# EAGLE library part PCA82C250 (library SquantorNxp)
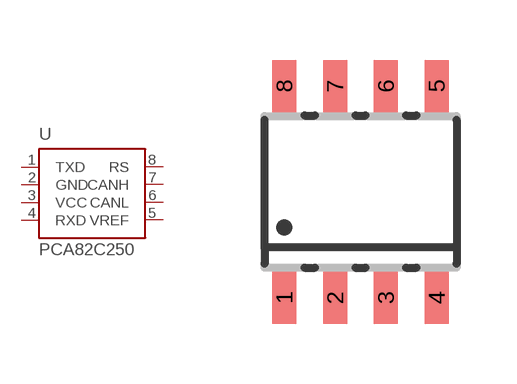
[diagram p10: symbol with the pads of SOT96-1; footprint SOT96-1]

Designator prefix -

## PCA82C250  [SOT96-1]
1  TXD
2  GND
3  VCC
4  RXD
5  VREF
6  CANL
7  CANH
8  RS

## Footprint SOT96-1 (pad centres in mm)
smd 0.6 x 1.3: 1 -1.905,-2.65; 2 -0.635,-2.65; 3 0.635,-2.65; 4 1.905,-2.65; 5 1.905,2.65; 6 0.635,2.65; 7 -0.635,2.65; 8 -1.905,2.65